# Altium schematic symbol library ADAQ4001BBCZ.SchLib: 1 symbol
Pins are listed as number, name and electrical type; pins without a type are passive.

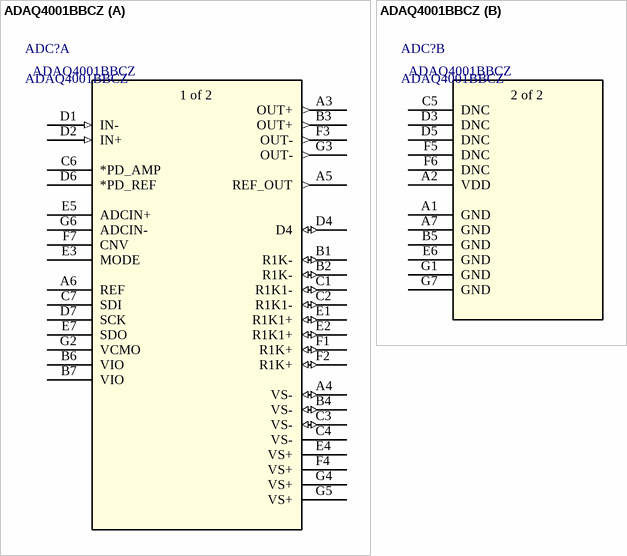
[diagram p0: symbol ADAQ4001BBCZ]

## ADAQ4001BBCZ
designator ADC?
Analog Devices ADAQ4001 - 16-Bit Sequential Approximation ADC; Mfr_Name: Analog Devices Inc; Copyright: Copyright (C) 2022 Ultra Librarian. All rights reserved.; Manufacturer_Part_Number: ADAQ4001BBCZ; RefDes: RefDes; Type: DEV; Supplier 1: Mouser; Supplier 2: Arrow Electronics; Supplier Part Number 2: ADAQ4001BBCZ
footprint BGA49_ADAQ4001BBCZ_ADI
part A pins: A3 OUT+ (out), A4 VS- (io), A5 REF_OUT (out), A6 REF, B1 R1K- (io), B2 R1K- (io), B3 OUT+ (out), B4 VS- (io), B6 VIO, B7 VIO, C1 R1K1- (io), C2 R1K1- (io), C3 VS- (io), C4 VS-, C6 *PD_AMP, C7 SDI, D1 IN- (in), D2 IN+ (in), D4 (io), D6 *PD_REF, D7 SCK, E1 R1K1+ (io), E2 R1K1+ (io), E3 MODE, E4 VS+, E5 ADCIN+, E7 SDO, F1 R1K+ (io), F2 R1K+ (io), F3 OUT- (out), F4 VS+, F7 CNV, G2 VCMO, G3 OUT- (out), G4 VS+, G5 VS+, G6 ADCIN-
part B pins: A1 GND, A2 VDD (power), A7 GND, B5 GND, C5 DNC, D3 DNC, D5 DNC, E6 GND, F5 DNC, F6 DNC, G1 GND, G7 GND
part A text: 1 of 2
part B text: 2 of 2